# EAGLE library part ADG738 (library analog-devices)
ANALOG MUX SWITCH CMOS, Low-Voltage, 3-Wire Serially-Controlled
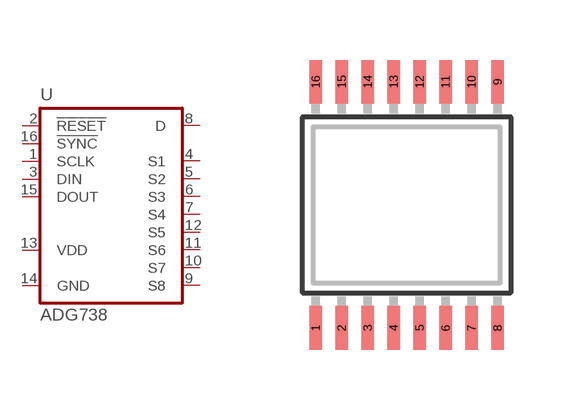
[diagram p33: symbol with the pads of TSSOP16; footprint TSSOP16]

Designator prefix U

## ADG738 (P1I: o)  [TSSOP16]
1  SCLK  in
2  !RESET!  in
3  DIN  in
4  S1
5  S2
6  S3
7  S4
8  D
9  S8
10  S7
11  S6
12  S5
13  VDD  pwr
14  GND  pwr
15  DOUT
16  !SYNC!  in

## Footprint TSSOP16 (pad centres in mm)
Thin Shrink Small Outline Plastic 16
smd 0.31 x 1.1: 1 -2.275,-3.08; 2 -1.625,-3.08; 3 -0.975,-3.08; 4 -0.325,-3.08; 5 0.325,-3.08; 6 0.975,-3.08; 7 1.625,-3.08; 8 2.275,-3.08; 9 2.275,3.08; 10 1.625,3.08; 11 0.975,3.08; 12 0.325,3.08; 13 -0.325,3.08; 14 -0.975,3.08; 15 -1.625,3.08; 16 -2.275,3.08